# Altium footprint library FilmCapacitors.PcbLib: 13 footprints
Each footprint in its own frame and in the unit in brackets; x right, y up, seen from the top. Pads: shape width x height; smd on the part's side, far side on the other; paste and mask are expansions set on the pad; w line width, h text height; cw(c..) or ccw(c..) is an arc to the next point about the centre after c.
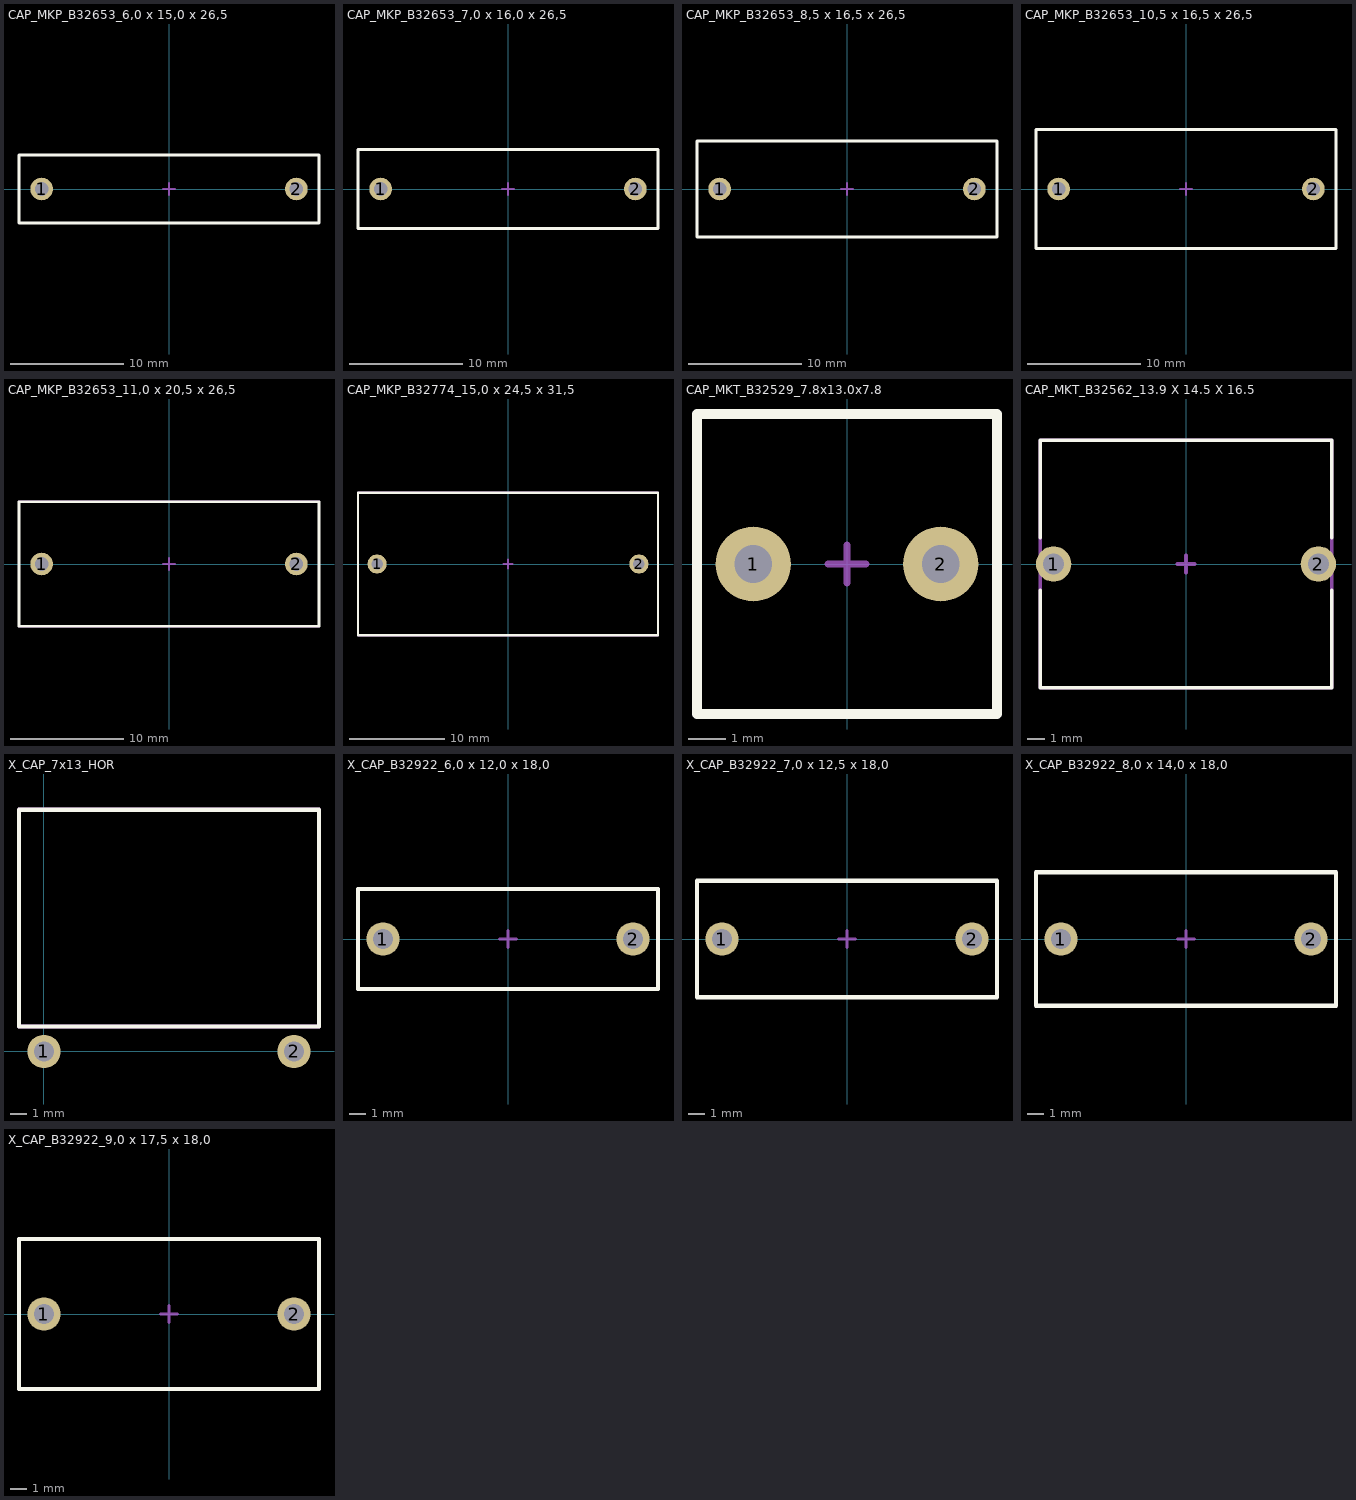
[diagram p0: the footprints below, top view; thin cyan lines are the x and y axes]

## CAP_MKP_B32653_6,0 x 15,0 x 26,5 [mm] "B32653 series"
height 15
pads (2):
  round 2 hole 1.2: 1(-11.25,0) 2(11.25,0)
Top Overlay:
  lines w0.254: -13.25,-3 -13.25,3 13.25,3 13.25,-3 -13.25,-3
Mechanical 15:
  lines w0.2: -0.5,0 0.5,0 ; 0,-0.5 0,0.5 ; -13.25,-3 -13.25,3 13.25,3 13.25,-3 -13.25,-3
3D body "CAP_MKP_B32653_6.0x15.0x26.5.STEP": height 15.5, standoff -2.7, extent -13.25,-3 13.25,3

## CAP_MKP_B32653_7,0 x 16,0 x 26,5 [mm] "B32653 series"
height 16
pads (2):
  round 2 hole 1.2: 1(-11.25,0) 2(11.25,0)
Top Overlay:
  lines w0.254: -13.25,-3.5 -13.25,3.5 13.25,3.5 13.25,-3.5 -13.25,-3.5
Mechanical 15:
  lines w0.2: -0.5,0 0.5,0 ; 0,-0.5 0,0.5 ; -13.25,-3.5 -13.25,3.5 13.25,3.5 13.25,-3.5 -13.25,-3.5
3D body "CAP_MKP_B32653_7.0x16.0x26.5.STEP": height 16.5, standoff -2.7, extent -13.25,-3.5 13.25,3.5

## CAP_MKP_B32653_8,5 x 16,5 x 26,5 [mm] "B32653 series"
height 16.5
pads (2):
  round 2 hole 1.2: 1(-11.25,0) 2(11.25,0)
Top Overlay:
  lines w0.254: -13.25,-4.25 13.25,-4.25 13.25,4.25 -13.25,4.25 -13.25,-4.25
Mechanical 15:
  lines w0.2: -0.5,0 0.5,0 ; 0,-0.5 0,0.5 ; -13.25,-4.25 13.25,-4.25 13.25,4.25 -13.25,4.25 -13.25,-4.25
3D body "CAP_MKP_B32653_8.5x16.5x26.5.STEP": height 17, standoff -2.7, extent -13.25,-4.25 13.25,4.25

## CAP_MKP_B32653_10,5 x 16,5 x 26,5 [mm] "B32653 series"
height 16.5
pads (2):
  round 2 hole 1.2: 1(-11.25,0) 2(11.25,0)
Top Overlay:
  lines w0.254: -13.25,-5.25 -13.25,5.25 13.25,5.25 13.25,-5.25 -13.25,-5.25
Mechanical 15:
  lines w0.2: -0.5,0 0.5,0 ; 0,-0.5 0,0.5 ; -13.25,-5.25 -13.25,5.25 13.25,5.25 13.25,-5.25 -13.25,-5.25
3D body "CAP_MKP_B32653_10.5x16.5x26.5.STEP": height 17, standoff -2.7, extent -13.25,-5.25 13.25,5.25

## CAP_MKP_B32653_11,0 x 20,5 x 26,5 [mm] "B32653 series"
height 20.5
pads (2):
  round 2 hole 1.2: 1(-11.25,0) 2(11.25,0)
Top Overlay:
  lines w0.254: -13.25,-5.5 -13.25,5.5 13.25,5.5 13.25,-5.5 -13.25,-5.5
Mechanical 15:
  lines w0.2: -0.5,0 0.5,0 ; 0,-0.5 0,0.5 ; -13.25,-5.5 -13.25,5.5 13.25,5.5 13.25,-5.5 -13.25,-5.5
3D body "CAP_MKP_B32653_11.0x20.5x26.5.STEP": height 21, standoff -2.7, extent -13.25,-5.5 13.25,5.5

## CAP_MKP_B32774_15,0 x 24,5 x 31,5 [mm] "B32774 series"
height 24.5
pads (2):
  round 2 hole 1.2: 1(-13.75,0) 2(13.75,0)
Top Overlay:
  lines w0.254: -15.75,-7.5 -15.75,7.5 15.75,7.5 15.75,-7.5 -15.75,-7.5
Mechanical 15:
  lines w0.2: -0.5,0 0.5,0 ; 0,-0.5 0,0.5 ; -15.75,-7.5 -15.75,7.5 15.75,7.5 15.75,-7.5 -15.75,-7.5
3D body "CAP_MKP_B32774_15.0x24.5x31.5.STEP": height 25, standoff -2.7, extent -15.75,-7.5 15.75,7.5

## CAP_MKT_B32529_7.8x13.0x7.8 [mm]
height 13
pads (2):
  round 2 hole 1: 1(-2.5,0) 2(2.5,0)
Top Overlay:
  lines w0.254: -4,-4 4,-4 4,4 -4,4 -4,-4
Mechanical 15:
  lines w0.2: -0.5,0 0.5,0 ; 0,-0.5 0,0.5
3D body "CAP_7.8x13.0x7.8.STEP": height 13.5, standoff -2.7, extent -3.9,-3.9 3.9,3.9

## CAP_MKT_B32562_13.9 X 14.5 X 16.5 [mm]
height 16.5
pads (2):
  round 2 hole 1.2: 1(-7.5,0) 2(7.5,0)
Top Overlay:
  lines w0.2: -8.25,-1.5 -8.25,-7 8.25,-7 8.25,-1.5 ; -8.25,1.5 -8.25,7 8.25,7 8.25,1.5
Mechanical 15:
  lines w0.2: -0.5,0 0.5,0 ; 0,-0.5 0,0.5 ; -8.25,-7 8.25,-7 8.25,-1.5 8.25,7 -8.25,7 -8.25,1.5 -8.25,-7
3D body "CAP_MKT_B32562_13.9x14.5x16.5.STEP": height 16.5, standoff -4, extent -7.9,-6.95 7.9,6.95

## X_CAP_7x13_HOR [mm]
height 7
pads (2):
  round 2 hole 1.2: 1(0,0) 2(15,0)
Top Overlay:
  lines w0.254: -1.5,1.5 16.5,1.5 16.5,14.5 -1.5,14.5 -1.5,1.5
Mechanical 13:
  lines w0.254: -1.5,1.5 16.5,1.5 16.5,14.5 -1.5,14.5 -1.5,1.5
3D body: height 7, standoff 0, extent -1.499,1.501 16.499,14.499

## X_CAP_B32922_6,0 x 12,0 x 18,0 [mm] "B32922 105 Grad series"
height 12
pads (2):
  round 2 hole 1.2: 1(-7.5,0) 2(7.5,0)
Top Overlay:
  lines w0.254: -9,-3 -9,3 9,3 9,-3 -9,-3
Mechanical 15:
  lines w0.2: -0.5,0 0.5,0 ; 0,-0.5 0,0.5 ; -9,-3 -9,3 9,3 9,-3 -9,-3
3D body "B32922_X2_6.0x12x18.STEP": height 12.5, standoff -2.7, extent -9,-3 9,3

## X_CAP_B32922_7,0 x 12,5 x 18,0 [mm] "B32922 105 Grad series"
height 12.5
pads (2):
  round 2 hole 1.2: 1(-7.5,0) 2(7.5,0)
Top Overlay:
  lines w0.254: -9,-3.5 9,-3.5 9,3.5 -9,3.5 -9,-3.5
Mechanical 15:
  lines w0.2: -0.5,0 0.5,0 ; 0,-0.5 0,0.5 ; -9,-3.5 9,-3.5 9,3.5 -9,3.5 -9,-3.5
3D body "B32922_X2_7.0x12.5x18.STEP": height 13, standoff -2.7, extent -9,-3.5 9,3.5

## X_CAP_B32922_8,0 x 14,0 x 18,0 [mm] "B32922 105 Grad series"
height 14
pads (2):
  round 2 hole 1.2: 1(-7.5,0) 2(7.5,0)
Top Overlay:
  lines w0.254: -9,-4 -9,4 9,4 9,-4 -9,-4
Mechanical 15:
  lines w0.2: -0.5,0 0.5,0 ; 0,-0.5 0,0.5 ; -9,-4 -9,4 9,4 9,-4 -9,-4
3D body "B32922_X2_8.0x14.0x18.STEP": height 14.5, standoff -2.7, extent -9,-4 9,4

## X_CAP_B32922_9,0 x 17,5 x 18,0 [mm] "B32922 105 Grad series"
height 17.5
pads (2):
  round 2 hole 1.2: 1(-7.5,0) 2(7.5,0)
Top Overlay:
  lines w0.254: -9,-4.5 -9,4.5 9,4.5 9,-4.5 -9,-4.5
Mechanical 15:
  lines w0.2: -0.5,0 0.5,0 ; 0,-0.5 0,0.5 ; -9,-4.5 -9,4.5 9,4.5 9,-4.5 -9,-4.5
3D body "B32922_X2_9.0x17.5x18.STEP": height 18, standoff -2.7, extent -9,-4.5 9,4.5